# Altium footprint library 天线.PcbLib: 5 footprints
Each footprint in its own frame and in the unit in brackets; x right, y up, seen from the top. Pads: shape width x height; smd on the part's side, far side on the other; paste and mask are expansions set on the pad; w line width, h text height; cw(c..) or ccw(c..) is an arc to the next point about the centre after c.
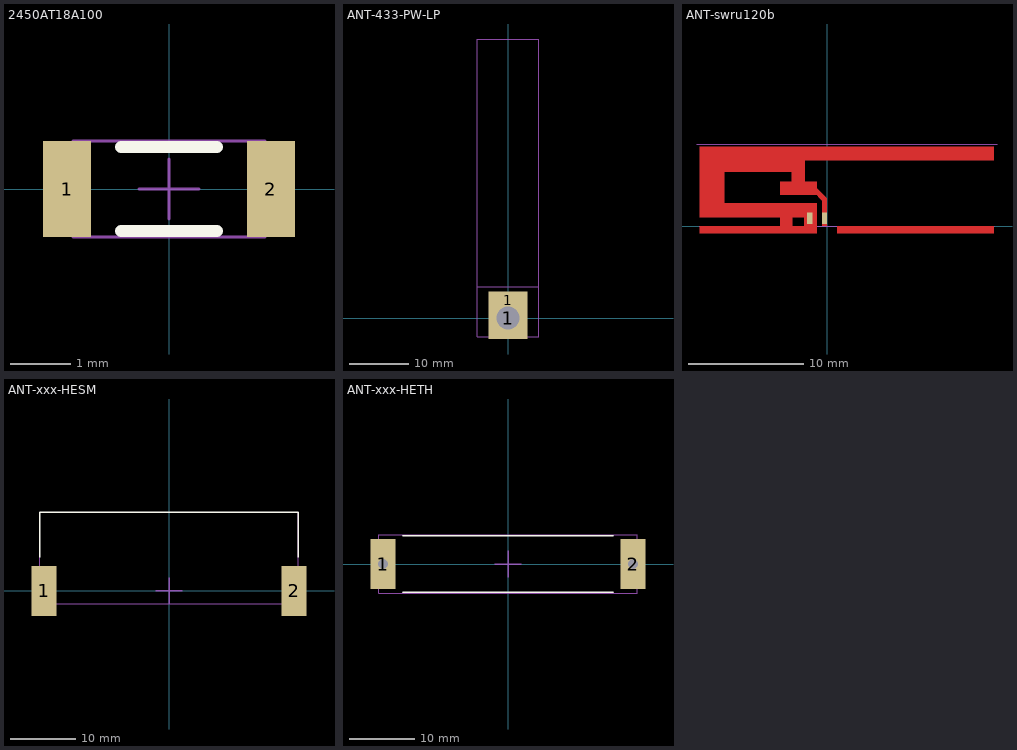
[diagram p0: the footprints below, top view; thin cyan lines are the x and y axes]

## 2450AT18A100 [mm] "2400 - 2500 MHz 50 Ω 2W(max) -40 to +85°C"
height 1.3
pads (2):
  rect 0.8x1.6 smd: 1(-1.7,0) 2(1.7,0)
Top Overlay:
  lines w0.2: -0.8,-0.7 0.8,-0.7 ; -0.8,0.7 0.8,0.7
Mechanical 13:
  lines w0.05: -1.6,-0.8 -1.6,0.8 1.6,0.8 1.6,-0.8 -1.6,-0.8
Mechanical 15:
  lines w0.05: -0.5,0 0.5,0 ; 0,-0.5 0,0.5
3D body: height 1.3, standoff 0, extent -1.6,-0.8 1.6,0.8

## ANT-433-PW-LP [mm] "433MHz 50 Ω Bandwidth:12MHz –20°C to +85°C"
height 10.4
pads (2):
  rect 6.6x7.12 hole 3.88 unplated: 1(0,0)
  rect 6.6x3 smd: 1(0,3)
Mechanical 1:
  lines w0.1: -5.2,5.33 5.2,5.33
Mechanical 13:
  lines w0.05: -5.2,-3.2 -5.2,47.3 5.2,47.3 5.2,-3.2 -5.2,-3.2
Mechanical 15:
  lines w0.05: -0.5,0 0.5,0 ; 0,-0.5 0,0.5
3D body: height 5.2, standoff -5.2, extent -5.2,-3.2 5.2,47.3

## ANT-swru120b [mm]
height 0.005
pads (2):
  rect 0.46x1 smd: 1(-0.23,0.7)
  rect 0.45x1 smd: 2(-1.524,0.708)
Top Layer:
  rectangle: -11.09,-0.64 -0.91,0
  rectangle: -2.01,0 -0.91,2.03
  rectangle: -11.09,0.74 -0.91,2.03
  rectangle: -11.09,2.03 -8.91,6.91
  rectangle: -11.09,5.7 14.49,6.91
  rectangle: -8.91,4.7 -1.91,5.7
  rectangle: -3.11,3.9 -1.91,4.7
  rectangle: -4.11,2.69 -0.91,3.9
  rectangle: 0.85,-0.64 14.49,0
  rectangle: -0.46,0 0,2.431
  region: -0.91,3.341 -1.235,3.015 -0.325,2.105 0,2.431
  rectangle: -4.11,0 -3.01,0.74
Mechanical 1:
  lines w0.1: -11.303,7.1 14.732,7.1
Mechanical 15:
  lines w0.1: -11.09,0 14.49,0

## ANT-xxx-HESM [mil] "315 418 433MHz 50 Ω -40 to +85°C"
height 350
pads (2):
  rect 150x300 smd: 1(-750,0) 2(750,-1)
Top Overlay:
  lines w7.87: -775,200 -775,472.44 775,472.44 ; 775,200 775,472.44 ; 775,472.44 775,472.44
Mechanical 13:
  lines w1.97: 775,472.44 -775,472.44 -775,-77.6 775,-77.6 775,472.44 ; 775,472.44 775,472.44
Mechanical 15:
  lines w7.87: -78.74,0 78.74,0 ; 0,-78.74 0,78.74
3D body: height 352.17, standoff 2.17, extent -775,-77.6 775,472.44

## ANT-xxx-HETH [mm] "315 418 433MHz 50 Ω -40 to +85°C"
height 10
pads (2):
  rect 3.81x7.62 hole 1.52 unplated: 1(-19.05,0) 2(19.05,-0.025)
Top Overlay:
  lines w0.254: -16,-4.3 16,-4.3 ; -16,4.3 16,4.3
Mechanical 13:
  lines w0.05: -19.685,-4.445 19.685,-4.445 19.685,4.445 -19.685,4.445 -19.685,-4.445
Mechanical 15:
  lines w0.2: -2,0 2,0 ; 0,-2 0,2
3D body: height 10.44, standoff -4.16, extent -19.685,-4.445 19.685,4.445